# EAGLE library part THS1215/30 (library xess)
3.3V, 12-bit, 15/30 MSPS, low-power analog-to-digital converter.
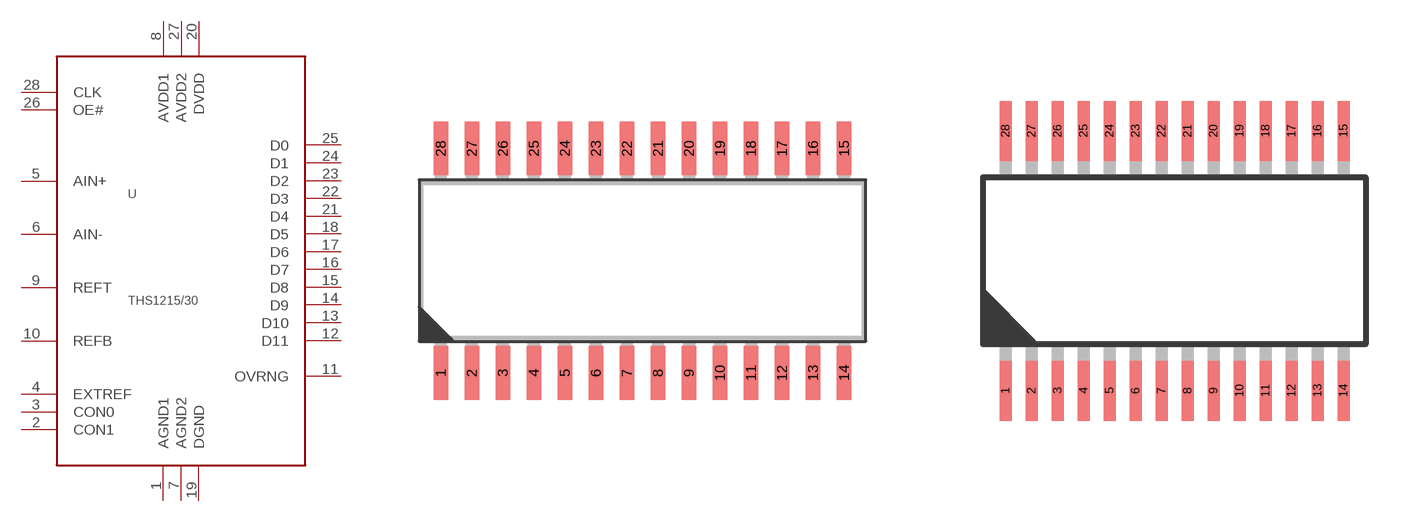
[diagram p27: symbol with the pads of SO28W; footprints SO28W, TSSOP28]

Designator prefix U

## THS1215/30-SOIC  [SO28W]
1  AGND1  pwr
2  CON1  in
3  CON0  in
4  EXTREF  in
5  AIN+  in
6  AIN-  in
7  AGND2  pwr
8  AVDD1  pwr
9  REFT  in
10  REFB  in
11  OVRNG  hiz
12  D11  hiz
13  D10  hiz
14  D9  hiz
15  D8  hiz
16  D7  hiz
17  D6  hiz
18  D5  hiz
19  DGND  pwr
20  DVDD  pwr
21  D4  hiz
22  D3  hiz
23  D2  hiz
24  D1  hiz
25  D0  hiz
26  OE#  in
27  AVDD2  pwr
28  CLK  in

## THS1215/30-TSSOP  [TSSOP28]
Pads as for SO28W

## Footprint SO28W (pad centres in mm)
smd 0.6 x 2.2: 1 -8.255,-4.6; 2 -6.985,-4.6; 3 -5.715,-4.6; 4 -4.445,-4.6; 5 -3.175,-4.6; 6 -1.905,-4.6; 7 -0.635,-4.6; 8 0.635,-4.6; 9 1.905,-4.6; 10 3.175,-4.6; 11 4.445,-4.6; 12 5.715,-4.6; 13 6.985,-4.6; 14 8.255,-4.6; 15 8.255,4.6; 16 6.985,4.6; 17 5.715,4.6; 18 4.445,4.6; 19 3.175,4.6; 20 1.905,4.6; 21 0.635,4.6; 22 -0.635,4.6; 23 -1.905,4.6; 24 -3.175,4.6; 25 -4.445,4.6; 26 -5.715,4.6; 27 -6.985,4.6; 28 -8.255,4.6

## Footprint TSSOP28 (pad centres in mm)
smd 0.3 x 1.5: 1 -4.52,-3.25; 2 -3.87,-3.25; 3 -3.22,-3.25; 4 -2.57,-3.25; 5 -1.92,-3.25; 6 -1.27,-3.25; 7 -0.62,-3.25; 8 0.03,-3.25; 9 0.68,-3.25; 10 1.33,-3.25; 11 1.98,-3.25; 12 2.63,-3.25; 13 3.28,-3.25; 14 3.93,-3.25; 15 3.93,3.25; 16 3.28,3.25; 17 2.63,3.25; 18 1.98,3.25; 19 1.33,3.25; 20 0.68,3.25; 21 0.03,3.25; 22 -0.62,3.25; 23 -1.27,3.25; 24 -1.92,3.25; 25 -2.57,3.25; 26 -3.22,3.25; 27 -3.87,3.25; 28 -4.52,3.25